# Altium integrated library Modules.IntLib: 28 symbols
Pins are listed as number, name and electrical type; pins without a type are passive.

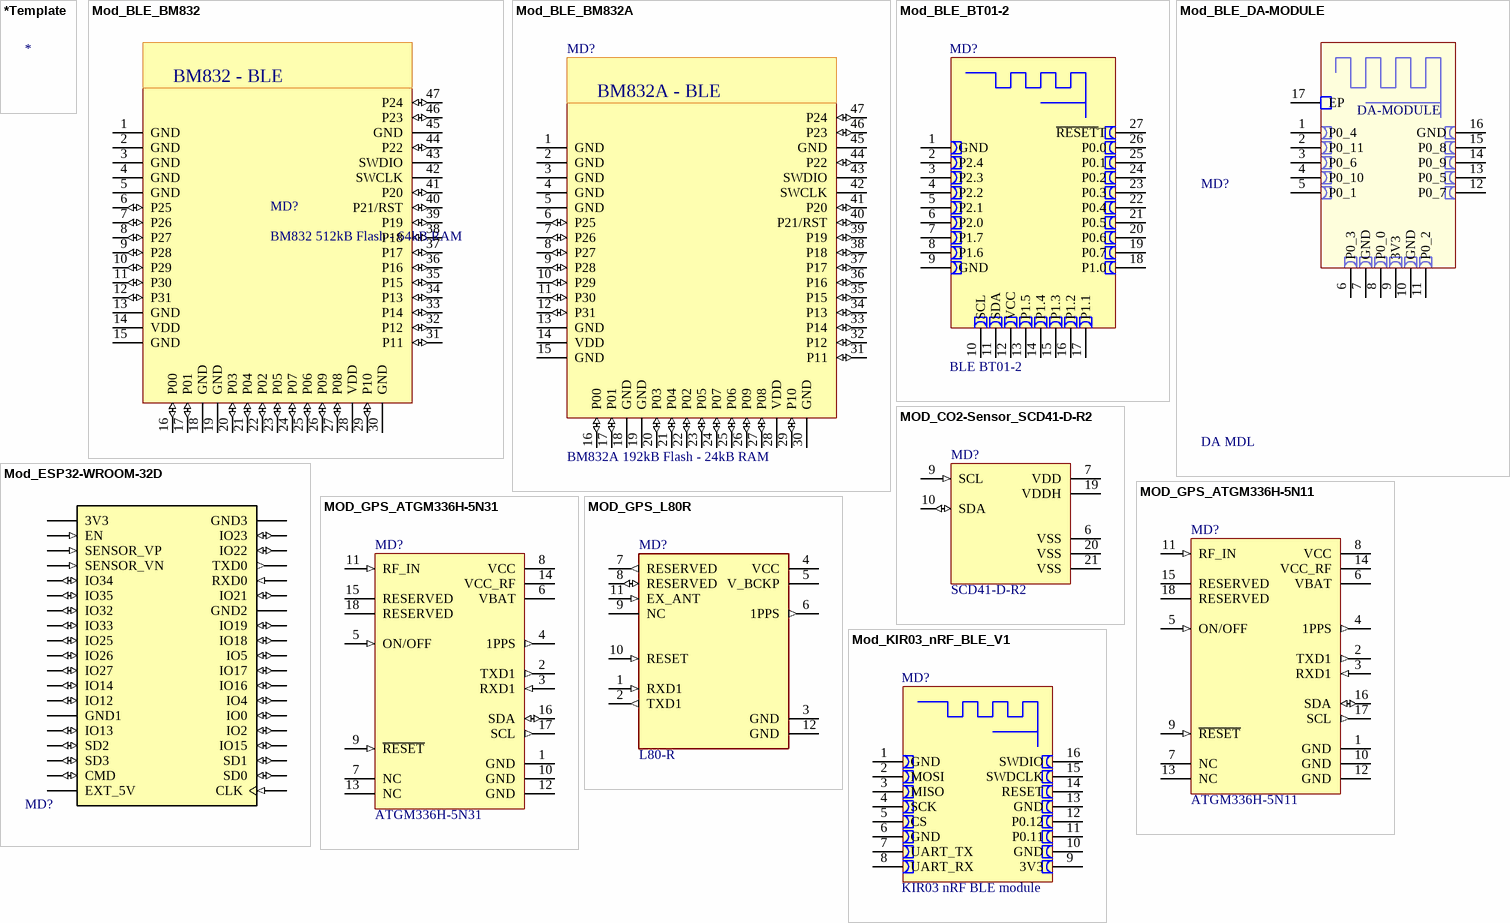
[diagram p0: symbols *Template to Mod_KIR03_nRF_BLE_V1]

## *Template
designator *
Reel Stock: N/A; Last modified by: J.Jaramillo; Last modified date: 20240310

## Mod_BLE_BM832
designator MD?, comment BM832 512kB Flash - 64kB RAM
RF TXRX MODULE BT PCB TRC SMD; Manufacturer: Fanstel Corp.; Manufacturer Part Number: BM832; Supplier 1: Digi-Key; Supplier Part Number 1: 1914-BM832CT-ND; Reel Stock: N/A; Last modified by: J.Jaramillo; Last modified date: 20240310; ComponentLink1Description: Digi-Key; ComponentLink1URL: https://www.digikey.com/en/products/detail/fanstel-corp/BM832/10296788
footprint MOD_BLE_BM832A (/20210909/C-E.Rincon)
pins: 1 GND (power), 2 GND (power), 3 GND (power), 4 GND (power), 5 GND (power), 6 P25 (io), 7 P26 (io), 8 P27 (io), 9 P28 (io), 10 P29 (io), 11 P30 (io), 12 P31 (io), 13 GND (power), 14 VDD (power), 15 GND (power), 16 P00 (io), 17 P01 (io), 18 GND (power), 19 GND (power), 20 P03 (io), 21 P04 (io), 22 P02 (io), 23 P05 (io), 24 P07 (io), 25 P06 (io), 26 P09 (io), 27 P08 (io), 28 VDD (power), 29 P10 (io), 30 GND (power), 31 P11 (io), 32 P12 (io), 33 P14 (io), 34 P13 (io), 35 P15 (io), 36 P16 (io), 37 P17 (io), 38 P18 (io), 39 P19 (io), 40 P21/RST (io), 41 P20 (io), 42 SWCLK (power), 43 SWDIO (power), 44 P22 (io), 45 GND (power), 46 P23 (io), 47 P24 (io)
text: BM832 - BLE

## Mod_BLE_BM832A
designator MD?, comment BM832A 192kB Flash - 24kB RAM
BLE v5.0 Transceiver Module, core nRF52810; Manufacturer: Fanstel Corp.; Manufacturer Part Number: BM832A; Supplier 1: Digi-Key; Supplier Part Number 1: 1914-BM832ACT-ND; Reel Stock: N/A; Last modified by: J.Jaramillo; Last modified date: 20240310; ComponentLink1Description: Digi-Key; ComponentLink1URL: https://www.digikey.com/en/products/detail/fanstel-corp/BM832A/10296795
footprint MOD_BLE_BM832A (/20210909/C-E.Rincon)
pins: 1 GND (power), 2 GND (power), 3 GND (power), 4 GND (power), 5 GND (power), 6 P25 (io), 7 P26 (io), 8 P27 (io), 9 P28 (io), 10 P29 (io), 11 P30 (io), 12 P31 (io), 13 GND (power), 14 VDD (power), 15 GND (power), 16 P00 (io), 17 P01 (io), 18 GND (power), 19 GND (power), 20 P03 (io), 21 P04 (io), 22 P02 (io), 23 P05 (io), 24 P07 (io), 25 P06 (io), 26 P09 (io), 27 P08 (io), 28 VDD (power), 29 P10 (io), 30 GND (power), 31 P11 (io), 32 P12 (io), 33 P14 (io), 34 P13 (io), 35 P15 (io), 36 P16 (io), 37 P17 (io), 38 P18 (io), 39 P19 (io), 40 P21/RST (io), 41 P20 (io), 42 SWCLK (power), 43 SWDIO (power), 44 P22 (io), 45 GND (power), 46 P23 (io), 47 P24 (io)
text: BM832A - BLE

## Mod_BLE_BT01-2
designator MD?, comment BLE BT01-2
BLUETOOTH 4.0 LOW ENERGY MODULE; Manufacturer: Digimore Electronics; Manufacturer Part Number: BT01-2; Supplier 1: Digimore Electronis; Supplier Part Number 1: BT01-2; Reel Stock: N/A; Last modified by: J.Jaramillo; Last modified date: 20240310; ComponentLink1Description: Digimore Electronics; ComponentLink1URL: https://www.digimore.com.tw/BT01-2.html
footprint MOD_BLE_BT01-2 (/20210217/J-E.Pachon)
pins: 1 GND, 2 P2.4, 3 P2.3, 4 P2.2, 5 P2.1, 6 P2.0, 7 P1.7, 8 P1.6, 9 GND, 10 SCL, 11 SDA, 12 VCC, 13 P1.5, 14 P1.4, 15 P1.3, 16 P1.2, 17 P1.1, 18 P1.0, 19 P0.7, 20 P0.6, 21 P0.5, 22 P0.4, 23 P0.3, 24 P0.2, 25 P0.1, 26 P0.0, 27 ~{RESET}T

## Mod_BLE_DA-MODULE
designator MD?, comment DA MDL  (no BOM)
MODULE BLE DA14531; Reel Stock: N/A; Last modified by: J.Jaramillo; Last modified date: 20240310
footprint MOD_BLE_DA (/20230718/L-A.Rodriguez)
pins: 1 P0_4, 2 P0_11, 3 P0_6, 4 P0_10, 5 P0_1, 6 P0_3, 7 GND, 8 P0_0, 9 3V3, 10 GND, 11 P0_2, 12 P0_7, 13 P0_5, 14 P0_9, 15 P0_8, 16 GND, 17 EP
text: DA-MODULE

## MOD_CO2-Sensor_SCD41-D-R2
designator MD?, comment SCD41-D-R2
CO2 SENSOR 40 PPM I2C SMD; Manufacturer: Sensirion AG; Manufacturer Part Number: SCD41-D-R2; Supplier 1: Digi-Key; Supplier Part Number 1: 1649-SCD41-D-R2CT-ND; Reel Stock: N/A; Last modified by: J.Jaramillo; Last modified date: 20240310; ComponentLink1Description: Digi-Key; ComponentLink1URL: https://www.digikey.com/en/products/detail/sensirion-ag/SCD41-D-R2/13684005?s=N4IgTCBcDaIMoGEAiAWAjAWiRgShAugL5A
footprint MOD_CO2-Sensor_SCD41-D-R2 (/20220124/J/E.Pachon)
pins: 6 VSS (power), 7 VDD (power), 9 SCL (in), 10 SDA (io), 19 VDDH (power), 20 VSS (power), 21 VSS (power)

## Mod_ESP32-WROOM-32D
designator MD?, comment General Development Kit, ESP32-WROOM-32D on the board  (value not drawn)
Manufacturer: Espressif; Manufacturer Part Number: ESP32-WROOM-32D; Supplier 1: Digi-Key; Supplier Part Number 1: 4166-PARTESP32WROOM32DDEVKITC-ND; Reel Stock: N/A; Last modified by: J.Jaramillo; Last modified date: 20240310
footprint MOD_ESP32-WROOM-32D (/20231103/J.Jaramillo)
pins: J2-1 3V3 (power), J2-2 EN (in), J2-3 SENSOR_VP (in), J2-4 SENSOR_VN (in), J2-5 IO34 (io), J2-6 IO35 (io), J2-7 IO32 (io), J2-8 IO33 (io), J2-9 IO25 (io), J2-10 IO26 (io), J2-11 IO27 (io), J2-12 IO14 (io), J2-13 IO12 (io), J2-14 GND1 (power), J2-15 IO13 (io), J2-16 SD2 (io), J2-17 SD3 (io), J2-18 CMD (io), J2-19 EXT_5V (power), J3-1 GND3 (power), J3-2 IO23 (io), J3-3 IO22 (io), J3-4 TXD0 (out), J3-5 RXD0 (in), J3-6 IO21 (io), J3-7 GND2 (power), J3-8 IO19 (io), J3-9 IO18 (io), J3-10 IO5 (io), J3-11 IO17 (io), J3-12 IO16 (io), J3-13 IO4 (io), J3-14 IO0 (io), J3-15 IO2 (io), J3-16 IO15 (io), J3-17 SD1 (io), J3-18 SD0 (io), J3-19 CLK (in)

## MOD_GPS_ATGM336H-5N11
designator MD?, comment ATGM336H-5N11
GNSS Series GPS 9.7x10.1mm Communication Modules/GNSS Modules RoHS; Manufacturer: ZHONGKEWEI; Manufacturer Part Number: ATGM336H-5N11; Supplier 1: LCSC; Supplier Part Number 1: C90769; Reel Stock: N/A; Last modified by: J.Jaramillo; Last modified date: 20240310; ComponentLink1Description: LCSC; ComponentLink1URL: https://lcsc.com/product-detail/Communication-Modules-GNSS-Modules_ZHONGKEWEI-ATGM336H-5N11_C90769.html
footprint MOD_GPS_ATGM336H-5N (/20210421/C-D Viveros)
pins: 1 GND (power), 2 TXD1 (out), 3 RXD1 (in), 4 1PPS (out), 5 ON/OFF (in), 6 VBAT (power), 7 NC (power), 8 VCC (power), 9 ~{RESET} (in), 10 GND (power), 11 RF_IN (in), 12 GND (power), 13 NC (power), 14 VCC_RF (power), 15 RESERVED, 16 SDA (io), 17 SCL (out), 18 RESERVED

## MOD_GPS_ATGM336H-5N31
designator MD?, comment ATGM336H-5N31
GNSS Series GPS+BDS 9.7x10.1mm Communication Modules/GNSS Modules RoHS; Manufacturer: ZHONGKEWEI; Manufacturer Part Number: ATGM336H-5N31; Supplier 1: LCSC; Supplier Part Number 1: C90770; Reel Stock: N/A; Last modified by: J.Jaramillo; Last modified date: 20240310; ComponentLink1Description: LCSC; ComponentLink1URL: https://lcsc.com/product-detail/Communication-Modules-GNSS-Modules_ZHONGKEWEI-ATGM336H-5N31_C90770.html
footprint MOD_GPS_ATGM336H-5N (/20210421/C-D Viveros)
pins: 1 GND (power), 2 TXD1 (out), 3 RXD1 (in), 4 1PPS (out), 5 ON/OFF (in), 6 VBAT (power), 7 NC (power), 8 VCC (power), 9 ~{RESET} (in), 10 GND (power), 11 RF_IN (in), 12 GND (power), 13 NC (power), 14 VCC_RF (power), 15 RESERVED, 16 SDA (io), 17 SCL (out), 18 RESERVED

## MOD_GPS_L80R
designator MD?, comment L80-R
GNSS Series GPS SMD Communication Modules/GNSS Modules RoHS; Manufacturer: Quectel; Manufacturer Part Number: L80-R; Supplier 1: LCSC; Supplier Part Number 1: C188357; Reel Stock: N/A; Last modified by: J.Jaramillo; Last modified date: 20240310; ComponentLink1Description: LCSC; ComponentLink1URL: https://lcsc.com/product-detail/Communication-Modules-GNSS-Modules_Quectel-L80-R_C188357.html
footprint MOD_GPS_L80RE (/20210416/V-A.Patino)
pins: 1 RXD1 (in), 2 TXD1 (out), 3 GND (power), 4 VCC (power), 5 V_BCKP (power), 6 1PPS (out), 7 RESERVED (out), 8 RESERVED (io), 9 NC, 10 RESET (in), 11 EX_ANT (in), 12 GND (power)

## Mod_KIR03_nRF_BLE_V1
designator MD?, comment KIR03 nRF BLE module  (no BOM)
Manufacturer: Titoma; Reel Stock: N/A; Last modified by: J.Jaramillo; Last modified date: 20240310
footprint Mod_KIR03_nRF_BLE_V1 (/20200207/ C-A.Serna.A)
pins: 1 GND, 2 MOSI, 3 MISO, 4 SCK, 5 CS, 6 GND, 7 UART_TX, 8 UART_RX, 9 3V3, 10 GND, 11 P0.11, 12 P0.12, 13 GND, 14 RESET, 15 SWDCLK, 16 SWDIO

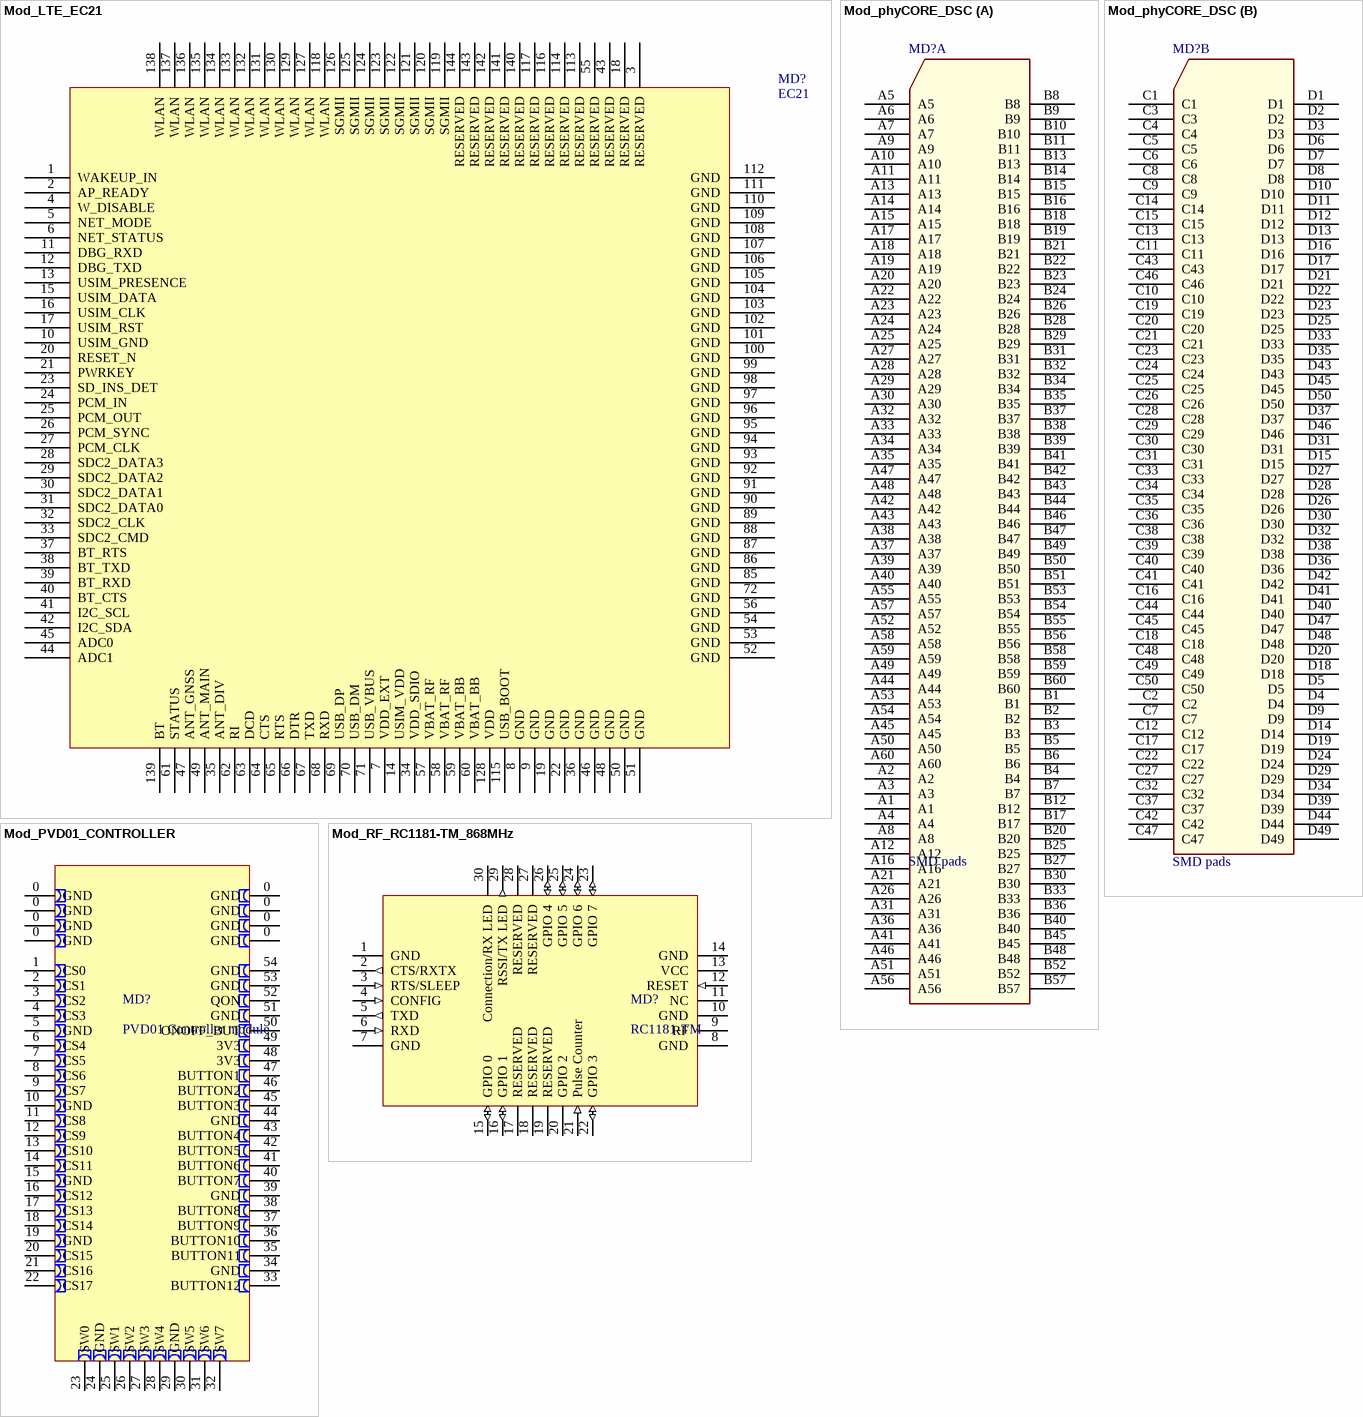
[diagram p1: symbols Mod_LTE_EC21 to Mod_RF_RC1181-TM_868MHz]

## Mod_LTE_EC21
designator MD?, comment EC21
Quectel EC21- series of LTE; Manufacturer Part Number: LTE-EC21; Manufacturer: QUECTEL; Supplier 1: Poshton; Supplier Part Number 1: LTE-EC21; Reel Stock: N/A; Last modified by: J.Jaramillo; Last modified date: 20240310; ComponentLink1Description: Datasheet; ComponentLink1URL: https://micromodern.ir/wp-content/uploads/2017/10/Quectel-EC21-Hardware-Design-datasheet.pdf
footprint MOD_LTE_EC21 (/20190402/ M-X.Arias)
pins: 1 WAKEUP_IN, 2 AP_READY, 3 RESERVED, 4 W_DISABLE, 5 NET_MODE, 6 NET_STATUS, 7 VDD_EXT, 8 GND, 9 GND, 10 USIM_GND, 11 DBG_RXD, 12 DBG_TXD, 13 USIM_PRESENCE, 14 USIM_VDD, 15 USIM_DATA, 16 USIM_CLK, 17 USIM_RST, 18 RESERVED, 19 GND, 20 RESET_N, 21 PWRKEY, 22 GND, 23 SD_INS_DET, 24 PCM_IN, 25 PCM_OUT, 26 PCM_SYNC, 27 PCM_CLK, 28 SDC2_DATA3, 29 SDC2_DATA2, 30 SDC2_DATA1, 31 SDC2_DATA0, 32 SDC2_CLK, 33 SDC2_CMD, 34 VDD_SDIO, 35 ANT_DIV, 36 GND, 37 BT_RTS, 38 BT_TXD, 39 BT_RXD, 40 BT_CTS, 41 I2C_SCL, 42 I2C_SDA, 43 RESERVED, 44 ADC1, 45 ADC0, 46 GND, 47 ANT_GNSS, 48 GND, 49 ANT_MAIN, 50 GND, 51 GND, 52 GND, 53 GND, 54 GND, 55 RESERVED, 56 GND, 57 VBAT_RF, 58 VBAT_RF, 59 VBAT_BB, 60 VBAT_BB, 61 STATUS, 62 RI, 63 DCD, 64 CTS, 65 RTS, 66 DTR, 67 TXD, 68 RXD, 69 USB_DP, 70 USB_DM, 71 USB_VBUS, 72 GND, 85 GND, 86 GND, 87 GND, 88 GND, 89 GND, 90 GND, 91 GND, 92 GND, 93 GND, 94 GND, 95 GND, 96 GND, 97 GND, 98 GND, 99 GND, 100 GND, 101 GND, 102 GND, 103 GND, 104 GND, 105 GND, 106 GND, 107 GND, 108 GND, 109 GND, 110 GND, 111 GND, 112 GND, 113 RESERVED, 114 RESERVED, 115 USB_BOOT, 116 RESERVED, 117 RESERVED, 118 WLAN, 119 SGMII, 120 SGMII, 121 SGMII, 122 SGMII, 123 SGMII, 124 SGMII, 125 SGMII, 126 SGMII, 127 WLAN, 128 VDD, 129 WLAN, 130 WLAN, 131 WLAN, 132 WLAN, 133 WLAN, 134 WLAN, 135 WLAN, 136 WLAN, 137 WLAN, 138 WLAN, 139 BT, 140 RESERVED, 141 RESERVED, 142 RESERVED, 143 RESERVED, 144 RESERVED

## Mod_phyCORE_DSC
designator MD?, comment SMD pads
phyCORE-AM335x 220 SMD pads; Manufacturer Part Number: PHYCORE 1358-4; Manufacturer: phyTEC; Supplier 1: phyTEC; Supplier Part Number 1: PHYCORE 1358-4; Reel Stock: N/A; Last modified by: J.Jaramillo; Last modified date: 20240310
footprint MOD_phyCORE_DSC (phyCORE DSC 220 SMD Pads/N-A.Potosi/20200309)
part A pins: A1, A2, A3, A4, A5, A6, A7, A8, A9, A10, A11, A12, A13, A14, A15, A16, A17, A18, A19, A20, A21, A22, A23, A24, A25, A26, A27, A28, A29, A30, A31, A32, A33, A34, A35, A36, A37, A38, A39, A40, A41, A42, A43, A44, A45, A46, A47, A48, A49, A50, A51, A52, A53, A54, A55, A56, A57, A58, A59, A60, B1, B2, B3, B4, B5, B6, B7, B8, B9, B10, B11, B12, B13, B14, B15, B16, B17, B18, B19, B20, B21, B22, B23, B24, B25, B26, B27, B28, B29, B30, B31, B32, B33, B34, B35, B36, B37, B38, B39, B40, B41, B42, B43, B44, B45, B46, B47, B48, B49, B50, B51, B52, B53, B54, B55, B56, B57, B58, B59, B60
part B pins: C1, C2, C3, C4, C5, C6, C7, C8, C9, C10, C11, C12, C13, C14, C15, C16, C17, C18, C19, C20, C21, C22, C23, C24, C25, C26, C27, C28, C29, C30, C31, C32, C33, C34, C35, C36, C37, C38, C39, C40, C41, C42, C43, C44, C45, C46, C47, C48, C49, C50, D1, D2, D3, D4, D5, D6, D7, D8, D9, D10, D11, D12, D13, D14, D15, D16, D17, D18, D19, D20, D21, D22, D23, D24, D25, D26, D27, D28, D29, D30, D31, D32, D33, D34, D35, D36, D37, D38, D39, D40, D41, D42, D43, D44, D45, D46, D47, D48, D49, D50

## Mod_PVD01_CONTROLLER
designator MD?, comment PVD01 Controller module
Reel Stock: N/A; Last modified by: J.Jaramillo; Last modified date: 20240310
footprint Mod_PVD01_CONTROLLER (/20230808/J-A.Sepulveda)
pins: 0 GND, 0 GND, 0 GND, 0 GND, 0 GND, 0 GND, 0 GND, 0 GND, 1 CS0, 2 CS1, 3 CS2, 4 CS3, 5 GND, 6 CS4, 7 CS5, 8 CS6, 9 CS7, 10 GND, 11 CS8, 12 CS9, 13 CS10, 14 CS11, 15 GND, 16 CS12, 17 CS13, 18 CS14, 19 GND, 20 CS15, 21 CS16, 22 CS17, 23 SW0, 24 GND, 25 SW1, 26 SW2, 27 SW3, 28 SW4, 29 GND, 30 SW5, 31 SW6, 32 SW7, 33 BUTTON12, 34 GND, 35 BUTTON11, 36 BUTTON10, 37 BUTTON9, 38 BUTTON8, 39 GND, 40 BUTTON7, 41 BUTTON6, 42 BUTTON5, 43 BUTTON4, 44 GND, 45 BUTTON3, 46 BUTTON2, 47 BUTTON1, 48 3V3, 49 3V3, 50 ONOFF_BUT, 51 GND, 52 QON, 53 GND, 54 GND

## Mod_RF_RC1181-TM_868MHz
designator MD?, comment RC1181-TM
RF TXRX MOD ISM < 1GHZ CAST SMD; Manufacturer: Radiocrafts AS; Manufacturer Part Number: RC1181-TM; Supplier 1: Digi-Key; Supplier Part Number 1: 1783-1039-1-ND; Reel Stock: N/A; Last modified by: J.Jaramillo; Last modified date: 20240310; ComponentLink1Description: Digi-Key; ComponentLink1URL: https://www.digikey.com/en/products/detail/radiocrafts-as/RC1181-TM/7100608
footprint MOD_RF_RC1181-TM_868MHz (/20230728/J-A.Sepulveda)
pins: 1 GND (power), 2 CTS/RXTX (out), 3 RTS/SLEEP (in), 4 CONFIG (in), 5 TXD (out), 6 RXD (in), 7 GND (power), 8 GND (power), 9 RF, 10 GND (power), 11 NC, 12 RESET (in), 13 VCC (power), 14 GND (power), 15 GPIO 0 (io), 16 GPIO 1 (io), 17 RESERVED, 18 RESERVED, 19 RESERVED, 20 GPIO 2, 21 Pulse Counter (in), 22 GPIO 3 (io), 23 GPIO 7 (io), 24 GPIO 6 (io), 25 GPIO 5 (io), 26 GPIO 4 (io), 27 RESERVED, 28 RESERVED, 29 RSSI/TX LED (out), 30 Connection/RX LED

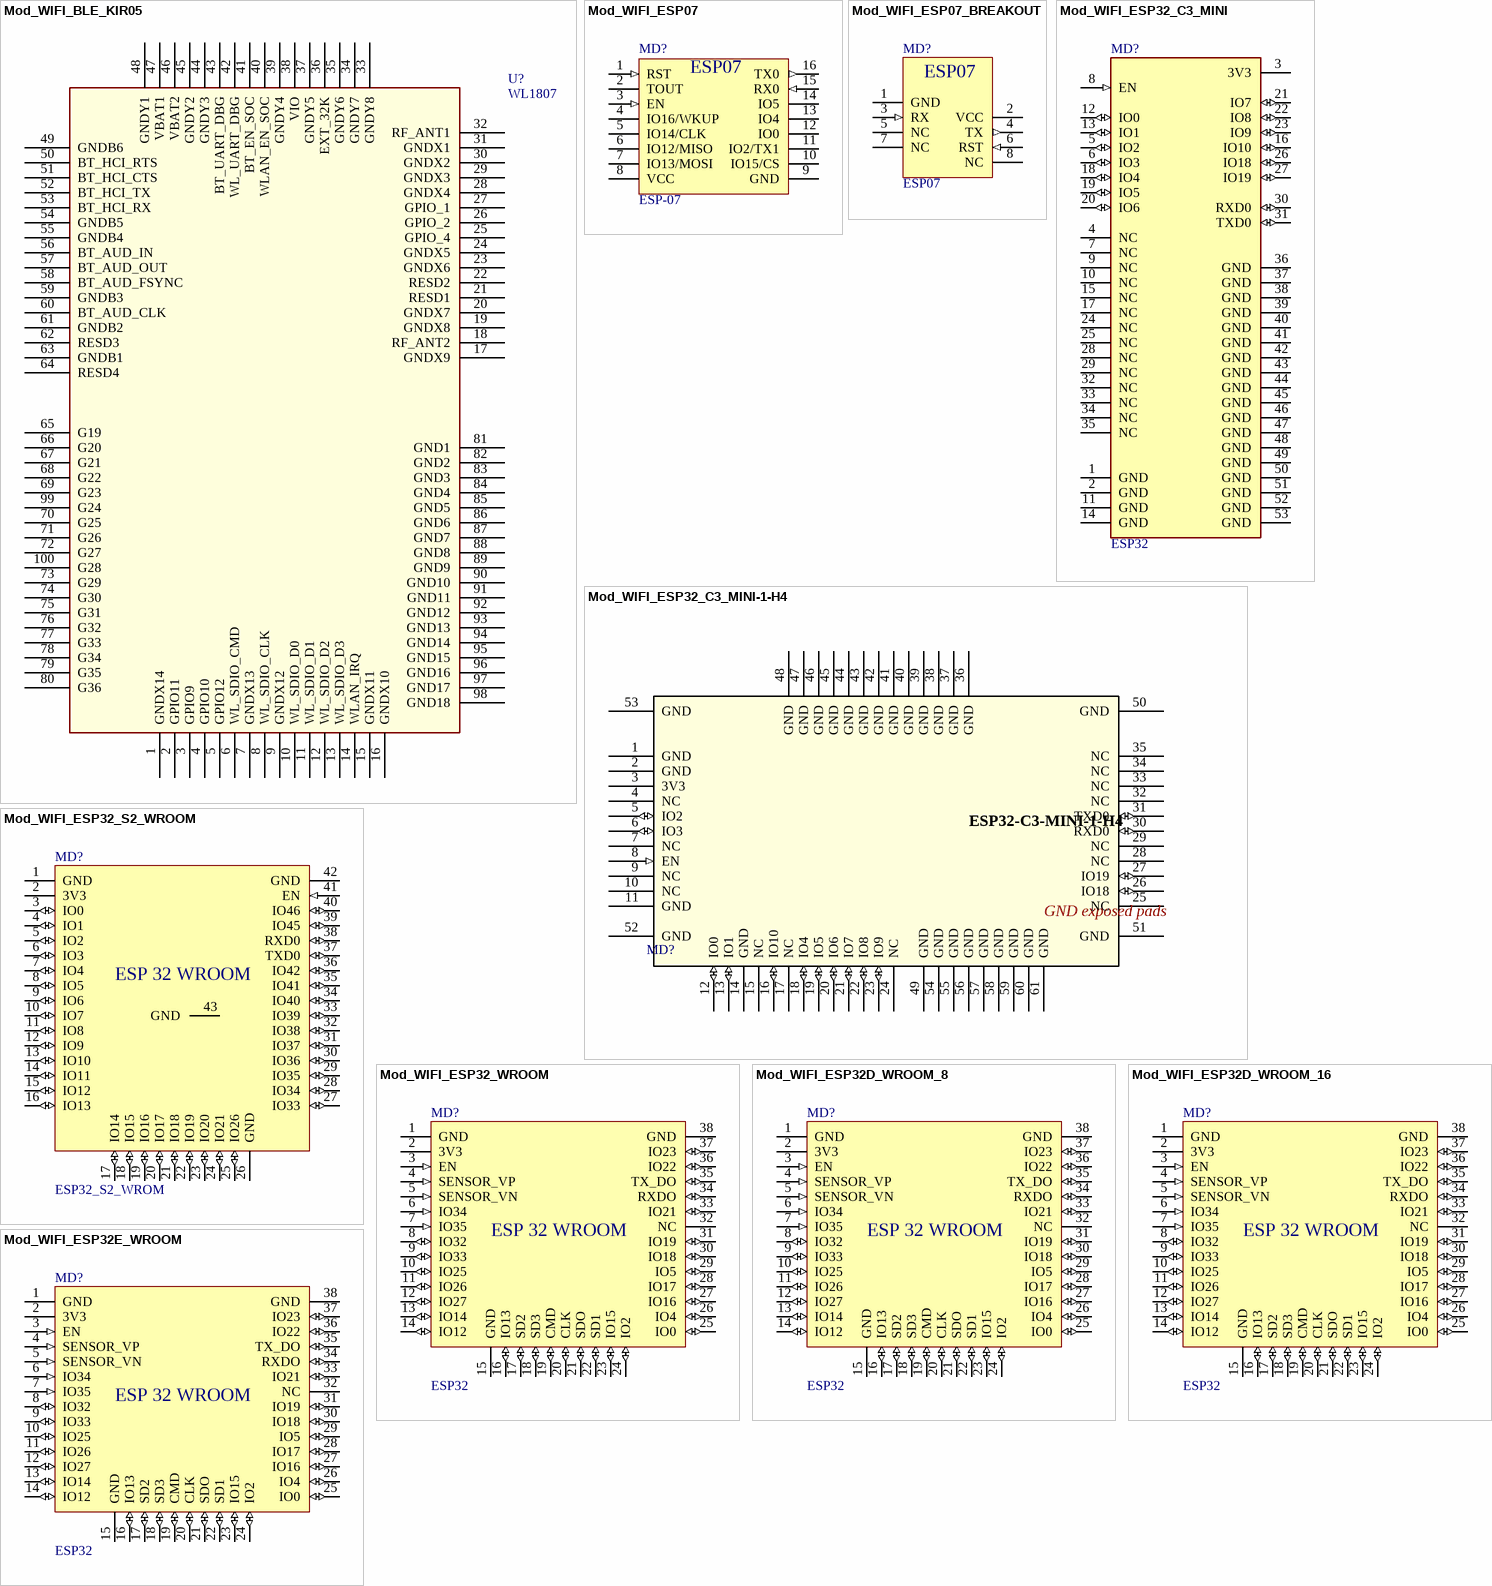
[diagram p2: symbols Mod_WIFI_BLE_KIR05 to Mod_WIFI_ESP32E_WROOM]

## Mod_WIFI_BLE_KIR05
designator U?, comment WL1807
RX TXRX MOD WIFI SURFACE MOUNT; Manufacturer: Texas Instruments; Manufacturer Part Number: WL1807MODGIMOCT; Supplier 1: Digi-Key; Supplier Part Number 1: 296-43665-1-ND; Reel Stock: N/A; Last modified by: J.Jaramillo; Last modified date: 20240310; ComponentLink1Description: Digi-Key; ComponentLink1URL: https://www.digikey.com/products/en?keywords=296-43665-1-ND
footprint MOD_WIFI_BLE_MOC0100A (/20200813/M-C.Calderon)
pins: 1 GNDX14, 2 GPIO11, 3 GPIO9, 4 GPIO10, 5 GPIO12, 6 WL_SDIO_CMD, 7 GNDX13, 8 WL_SDIO_CLK, 9 GNDX12, 10 WL_SDIO_D0, 11 WL_SDIO_D1, 12 WL_SDIO_D2, 13 WL_SDIO_D3, 14 WLAN_IRQ, 15 GNDX11, 16 GNDX10, 17 GNDX9, 18 RF_ANT2, 19 GNDX8, 20 GNDX7, 21 RESD1, 22 RESD2, 23 GNDX6, 24 GNDX5, 25 GPIO_4, 26 GPIO_2, 27 GPIO_1, 28 GNDX4, 29 GNDX3, 30 GNDX2, 31 GNDX1, 32 RF_ANT1, 33 GNDY8, 34 GNDY7, 35 GNDY6, 36 EXT_32K, 37 GNDY5, 38 VIO, 39 GNDY4, 40 WLAN_EN_SOC, 41 BT_EN_SOC, 42 WL_UART_DBG, 43 BT_UART_DBG, 44 GNDY3, 45 GNDY2, 46 VBAT2, 47 VBAT1, 48 GNDY1, 49 GNDB6, 50 BT_HCI_RTS, 51 BT_HCI_CTS, 52 BT_HCI_TX, 53 BT_HCI_RX, 54 GNDB5, 55 GNDB4, 56 BT_AUD_IN, 57 BT_AUD_OUT, 58 BT_AUD_FSYNC, 59 GNDB3, 60 BT_AUD_CLK, 61 GNDB2, 62 RESD3, 63 GNDB1, 64 RESD4, 65 G19, 66 G20, 67 G21, 68 G22, 69 G23, 70 G25, 71 G26, 72 G27, 73 G29, 74 G30, 75 G31, 76 G32, 77 G33, 78 G34, 79 G35, 80 G36, 81 GND1, 82 GND2, 83 GND3, 84 GND4, 85 GND5, 86 GND6, 87 GND7, 88 GND8, 89 GND9, 90 GND10, 91 GND11, 92 GND12, 93 GND13, 94 GND14, 95 GND15, 96 GND16, 97 GND17, 98 GND18, 99 G24, 100 G28

## Mod_WIFI_ESP07
designator MD?, comment ESP-07
ESP-07 WiFi Module; Manufacturer: AI-Thinker; Manufacturer Part Number: ESP-07; Supplier 1: AI-Thinker; Supplier Part Number 1: ESP-07; Reel Stock: N/A; Last modified by: J.Jaramillo; Last modified date: 20240310; ComponentLink2Description: Datasheet; ComponentLink2URL: http://www.ai-thinker.com/pro_view-20.html
footprint MOD_WIFI_ESP_07 (ESP_07 / 20190221 / H-D.Garcia)
pins: 1 RST (in), 2 TOUT, 3 EN (in), 4 IO16/WKUP, 5 IO14/CLK, 6 IO12/MISO, 7 IO13/MOSI, 8 VCC (power), 9 GND (power), 10 IO15/CS, 11 IO2/TX1, 12 IO0, 13 IO4, 14 IO5, 15 RX0 (in), 16 TX0 (out)
text: ESP07

## Mod_WIFI_ESP07_BREAKOUT
designator MD?, comment ESP07  (no BOM)
TITOMA ESP07 BREAKOUT; Reel Stock: N/A; Last modified by: J.Jaramillo; Last modified date: 20240310
footprint MOD_WIFI_ESP07_BREAKOUT (ESP07/ 20200221 / N-A. Potosi)
pins: 1 GND, 2 VCC, 3 RX (in), 4 TX (out), 5 NC, 6 RST (in), 7 NC, 8 NC

## Mod_WIFI_ESP32_C3_MINI
designator MD?, comment ESP32
SMD MODULE, ESP32-C3FN4, IPEX AN; Manufacturer: Espressif Systems; Manufacturer Part Number: ESP32-C3-MINI-1U-N4; Supplier 1: Digi-Key; Supplier Part Number 1: 1965-ESP32-C3-MINI-1U-N4CT-ND; Reel Stock: N/A; Last modified by: J.Jaramillo; Last modified date: 20240310; ComponentLink1Description: Digi-Key; ComponentLink1URL: https://www.digikey.com/en/products/detail/espressif-systems/ESP32-C3-MINI-1U-N4/15222550?s=N4IgTCBcDaIKIGUAKBmMBaAwi9BZAkgHL7oCMAquoQCwgC6AvkA
footprint MOD_WIFI_ESP32_C3_MINI (20220613 / E.Naranjo)
pins: 1 GND (power), 2 GND (power), 3 3V3 (power), 4 NC, 5 IO2 (io), 6 IO3 (io), 7 NC, 8 EN (in), 9 NC, 10 NC, 11 GND (power), 12 IO0 (io), 13 IO1 (io), 14 GND (power), 15 NC, 16 IO10 (io), 17 NC, 18 IO4 (io), 19 IO5 (io), 20 IO6 (io), 21 IO7 (io), 22 IO8 (io), 23 IO9 (io), 24 NC, 25 NC, 26 IO18 (io), 27 IO19 (io), 28 NC, 29 NC, 30 RXD0 (io), 31 TXD0 (io), 32 NC, 33 NC, 34 NC, 35 NC, 36 GND (power), 37 GND (power), 38 GND (power), 39 GND (power), 40 GND (power), 41 GND (power), 42 GND (power), 43 GND (power), 44 GND (power), 45 GND (power), 46 GND (power), 47 GND (power), 48 GND (power), 49 GND (power), 50 GND (power), 51 GND (power), 52 GND (power), 53 GND (power)

## Mod_WIFI_ESP32_C3_MINI-1-H4
designator MD?
IC PSRAM 4MB FLASH SMD; Manufacturer: Espressif Systems; Manufacturer Part Number: ESP32-C3-MINI-1-H4; Supplier 1: Digi-Key; Supplier Part Number 1: 1965-ESP32-C3-MINI-1-H4CT-ND; Reel Stock: N/A; Last modified by: J.Jaramillo; Last modified date: 20240310; ComponentLink1Description: Digi-Key; ComponentLink1URL: https://www.digikey.com/en/products/detail/espressif-systems/ESP32-C3-MINI-1-H4/14548892; ComponentLink2Description: Datasheet; ComponentLink2URL: https://www.espressif.com/sites/default/files/documentation/esp32-c3-mini-1_datasheet_en.pdf
footprint MOD_WIFI_ESP32_C3_MINI -1-H4 (20230614 / J.Jaramillo)
pins: 1 GND (power), 2 GND (power), 3 3V3 (power), 4 NC, 5 IO2 (io), 6 IO3 (io), 7 NC, 8 EN (in), 9 NC, 10 NC, 11 GND (power), 12 IO0 (io), 13 IO1 (io), 14 GND (power), 15 NC, 16 IO10 (io), 17 NC, 18 IO4 (io), 19 IO5 (io), 20 IO6 (io), 21 IO7 (io), 22 IO8 (io), 23 IO9 (io), 24 NC, 25 NC, 26 IO18 (io), 27 IO19 (io), 28 NC, 29 NC, 30 RXD0 (io), 31 TXD0 (io), 32 NC, 33 NC, 34 NC, 35 NC, 36 GND (power), 37 GND (power), 38 GND (power), 39 GND (power), 40 GND (power), 41 GND (power), 42 GND (power), 43 GND (power), 44 GND (power), 45 GND (power), 46 GND (power), 47 GND (power), 48 GND (power), 49 GND (power), 50 GND (power), 51 GND (power), 52 GND (power), 53 GND (power), 54 GND (power), 55 GND (power), 56 GND (power), 57 GND (power), 58 GND (power), 59 GND (power), 60 GND (power), 61 GND (power)
text: GND exposed pads

## Mod_WIFI_ESP32_S2_WROOM
designator MD?, comment ESP32_S2_WROM
RX TXRX MOD WIFI SURFACE MOUNT; Manufacturer: Espressif Systems; Manufacturer Part Number: ESP32-S2-WROOM; Supplier 1: Digi-Key; Supplier Part Number 1: 1965-ESP32-S2-WROOMCT-ND; Reel Stock: N/A; Last modified by: J.Jaramillo; Last modified date: 20240310; ComponentLink1Description: Digi-Key; ComponentLink1URL: https://www.digikey.com/en/products/detail/espressif-systems/ESP32-S2-WROOM/11613143?s=N4IgTCBcDaIIwE4BsBWAtAUQMoAUDMYaWhA6gEoDyFAsgMIAqaAcgCIgC6AvkA
footprint MOD_WIFI_ESP32_S2_WROM (/20210325/V-A.Patino)
pins: 1 GND (power), 2 3V3 (power), 3 IO0 (io), 4 IO1 (io), 5 IO2 (io), 6 IO3 (io), 7 IO4 (io), 8 IO5 (io), 9 IO6 (io), 10 IO7 (io), 11 IO8 (io), 12 IO9 (io), 13 IO10 (io), 14 IO11 (io), 15 IO12 (io), 16 IO13 (io), 17 IO14 (io), 18 IO15 (io), 19 IO16 (io), 20 IO17 (io), 21 IO18 (io), 22 IO19 (io), 23 IO20 (io), 24 IO21 (io), 25 IO26 (io), 26 GND (power), 27 IO33 (io), 28 IO34 (io), 29 IO35 (io), 30 IO36 (io), 31 IO37 (io), 32 IO38 (io), 33 IO39 (io), 34 IO40 (io), 35 IO41 (io), 36 IO42 (io), 37 TXD0 (io), 38 RXD0 (io), 39 IO45 (io), 40 IO46 (io), 41 EN (in), 42 GND (power), 43 GND (power)
text: ESP 32 WROOM

## Mod_WIFI_ESP32_WROOM
designator MD?, comment ESP32
SMD MODULE, ESP32-D0WDQ6, 32MBIT; Manufacturer: Espressif Systems; Manufacturer Part Number: ESP32-WROOM-32; Supplier 1: Digi-Key; Supplier Part Number 1: 1904-1010-1-ND; Reel Stock: N/A; Last modified by: J.Jaramillo; Last modified date: 20240310; ComponentLink1Description: Digi-Key; ComponentLink1URL: https://www.digikey.com/product-detail/en/espressif-systems/ESP32-WROOM-32/1904-1010-1-ND/8544305
footprint MOD_WIFI_ESP32_WROOM (ESP32_WROOM / 20190221 / H-D.Garcia)
pins: 1 GND (power), 2 3V3 (power), 3 EN (in), 4 SENSOR_VP (in), 5 SENSOR_VN (in), 6 IO34 (in), 7 IO35 (in), 8 IO32 (io), 9 IO33 (io), 10 IO25 (io), 11 IO26 (io), 12 IO27 (io), 13 IO14 (io), 14 IO12 (io), 15 GND (power), 16 IO13 (io), 17 SD2 (io), 18 SD3 (io), 19 CMD (io), 20 CLK (io), 21 SDO (io), 22 SD1 (io), 23 IO15 (io), 24 IO2 (io), 25 IO0 (io), 26 IO4 (io), 27 IO16 (io), 28 IO17 (io), 29 IO5 (io), 30 IO18 (io), 31 IO19 (io), 32 NC, 33 IO21 (io), 34 RXDO (io), 35 TX_DO (io), 36 IO22 (io), 37 IO23 (io), 38 GND (power)
text: ESP 32 WROOM

## Mod_WIFI_ESP32D_WROOM_8
designator MD?, comment ESP32
RX TXRX MOD WIFI TRACE ANT SMD; Manufacturer: Espressif Systems; Manufacturer Part Number: ESP32-WROOM-32D-N8; Supplier 1: Digi-Key; Supplier Part Number 1: 1965-ESP32-WROOM-32D-N8CT-ND; Reel Stock: N/A; Last modified by: J.Jaramillo; Last modified date: 20240310; ComponentLink1Description: Digi-Key; ComponentLink1URL: https://www.digikey.com/en/products/detail/espressif-systems/ESP32-WROOM-32D-N8/9381717
footprint MOD_WIFI_ESP32_WROOM (ESP32_WROOM / 20190221 / H-D.Garcia)
pins: 1 GND (power), 2 3V3 (power), 3 EN (in), 4 SENSOR_VP (in), 5 SENSOR_VN (in), 6 IO34 (in), 7 IO35 (in), 8 IO32 (io), 9 IO33 (io), 10 IO25 (io), 11 IO26 (io), 12 IO27 (io), 13 IO14 (io), 14 IO12 (io), 15 GND (power), 16 IO13 (io), 17 SD2 (io), 18 SD3 (io), 19 CMD (io), 20 CLK (io), 21 SDO (io), 22 SD1 (io), 23 IO15 (io), 24 IO2 (io), 25 IO0 (io), 26 IO4 (io), 27 IO16 (io), 28 IO17 (io), 29 IO5 (io), 30 IO18 (io), 31 IO19 (io), 32 NC, 33 IO21 (io), 34 RXDO (io), 35 TX_DO (io), 36 IO22 (io), 37 IO23 (io), 38 GND (power)
text: ESP 32 WROOM

## Mod_WIFI_ESP32D_WROOM_16
designator MD?, comment ESP32
RX TXRX MOD WIFI TRACE ANT SMD; Manufacturer: Espressif Systems; Manufacturer Part Number: ESP32-WROOM-32D-N16; Supplier 1: Digi-Key; Supplier Part Number 1: 1965-ESP32-WROOM-32D-N16CT-ND; Reel Stock: N/A; Last modified by: J.Jaramillo; Last modified date: 20240310; ComponentLink1Description: Digi-Key; ComponentLink1URL: https://www.digikey.com/en/products/detail/espressif-systems/ESP32-WROOM-32D-N16/9381718
footprint MOD_WIFI_ESP32_WROOM (ESP32_WROOM / 20190221 / H-D.Garcia)
pins: 1 GND (power), 2 3V3 (power), 3 EN (in), 4 SENSOR_VP (in), 5 SENSOR_VN (in), 6 IO34 (in), 7 IO35 (in), 8 IO32 (io), 9 IO33 (io), 10 IO25 (io), 11 IO26 (io), 12 IO27 (io), 13 IO14 (io), 14 IO12 (io), 15 GND (power), 16 IO13 (io), 17 SD2 (io), 18 SD3 (io), 19 CMD (io), 20 CLK (io), 21 SDO (io), 22 SD1 (io), 23 IO15 (io), 24 IO2 (io), 25 IO0 (io), 26 IO4 (io), 27 IO16 (io), 28 IO17 (io), 29 IO5 (io), 30 IO18 (io), 31 IO19 (io), 32 NC, 33 IO21 (io), 34 RXDO (io), 35 TX_DO (io), 36 IO22 (io), 37 IO23 (io), 38 GND (power)
text: ESP 32 WROOM

## Mod_WIFI_ESP32E_WROOM
designator MD?, comment ESP32
SMD MODULE, ESP32-D0WDQ6, 32MBIT; Manufacturer: Espressif Systems; Manufacturer Part Number: ESP32-WROOM-32E (4MB); Supplier 1: Digi-Key; Supplier Part Number 1: 1965-ESP32-WROOM-32E(4MB)CT-ND; Reel Stock: N/A; Last modified by: J.Jaramillo; Last modified date: 20240310; ComponentLink1Description: Digi-Key; ComponentLink1URL: https://www.digikey.com/en/products/detail/espressif-systems/ESP32-WROOM-32E-4MB/11613125
footprint MOD_WIFI_ESP32_WROOM (ESP32_WROOM / 20190221 / H-D.Garcia)
pins: 1 GND (power), 2 3V3 (power), 3 EN (in), 4 SENSOR_VP (in), 5 SENSOR_VN (in), 6 IO34 (in), 7 IO35 (in), 8 IO32 (io), 9 IO33 (io), 10 IO25 (io), 11 IO26 (io), 12 IO27 (io), 13 IO14 (io), 14 IO12 (io), 15 GND (power), 16 IO13 (io), 17 SD2 (io), 18 SD3 (io), 19 CMD (io), 20 CLK (io), 21 SDO (io), 22 SD1 (io), 23 IO15 (io), 24 IO2 (io), 25 IO0 (io), 26 IO4 (io), 27 IO16 (io), 28 IO17 (io), 29 IO5 (io), 30 IO18 (io), 31 IO19 (io), 32 NC, 33 IO21 (io), 34 RXDO (io), 35 TX_DO (io), 36 IO22 (io), 37 IO23 (io), 38 GND (power)
text: ESP 32 WROOM

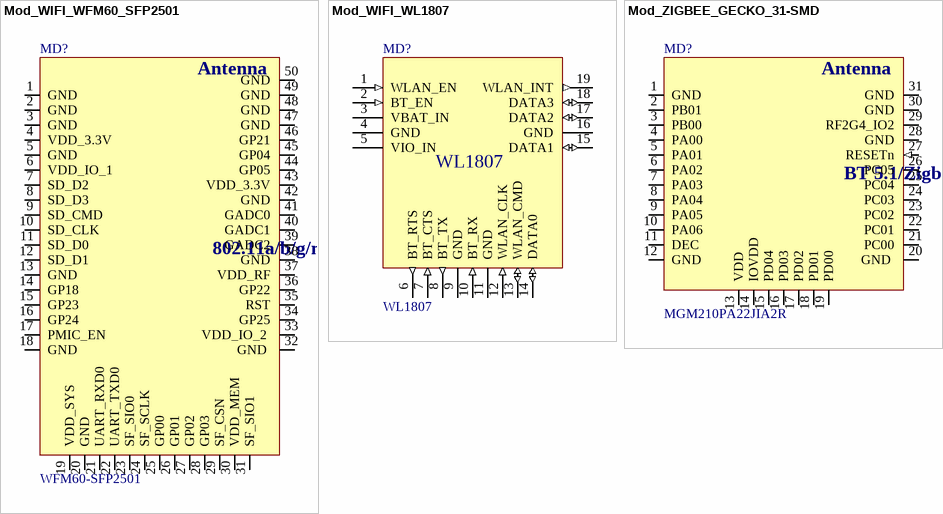
[diagram p3: symbols Mod_WIFI_WFM60_SFP2501 to Mod_ZIGBEE_GECKO_31-SMD]

## Mod_WIFI_WFM60_SFP2501
designator MD?, comment WFM60-SFP2501
WIFI MODULE 32MBITS SPI FLASH; Manufacturer: I&C Technology; Manufacturer Part Number: WFM60-SFP2501; Supplier 1: Poshton; Supplier Part Number 1: WFM60-SFP2501; Reel Stock: N/A; Last modified by: J.Jaramillo; Last modified date: 20240310
footprint Mod_Wifi_WFM60_SFP2501 (WFM60 / 20190221 / H-D.Garcia)
pins: 1 GND  (power), 2 GND  (power), 3 GND  (power), 4 VDD_3.3V  (power), 5 GND  (power), 6 VDD_IO_1  (power), 7 SD_D2 , 8 SD_D3 , 9 SD_CMD , 10 SD_CLK , 11 SD_D0 , 12 SD_D1 , 13 GND  (power), 14 GP18 , 15 GP23 , 16 GP24 , 17 PMIC_EN , 18 GND  (power), 19 VDD_SYS  (power), 20 GND  (power), 21 UART_RXD0 , 22 UART_TXD0 , 23 SF_SIO0 , 24 SF_SCLK , 25 GP00 , 26 GP01 , 27 GP02 , 28 GP03 , 29 SF_CSN , 30 VDD_MEM  (power), 31 SF_SIO1 , 32 GND  (power), 33 VDD_IO_2  (power), 34 GP25, 35 RST, 36 GP22, 37 VDD_RF (power), 38 GND (power), 39 GADC2, 40 GADC1, 41 GADC0, 42 GND (power), 43 VDD_3.3V (power), 44 GP05 (power), 45 GP04 (power), 46 GP21 (power), 47 GND (power), 48 GND (power), 49 GND (power), 50 GND (power)
text: Antenna; 802.11a/b/g/n

## Mod_WIFI_WL1807
designator MD?, comment WL1807  (no BOM)
MODULE WIFI WILINK; Reel Stock: N/A; Last modified by: J.Jaramillo; Last modified date: 20240310
footprint MOD_WIFI_WL1807 (WL1807/ 20191205 / N-A. Potosi)
pins: 1 WLAN_EN (in), 2 BT_EN (in), 3 VBAT_IN, 4 GND, 5 VIO_IN, 6 BT_RTS (out), 7 BT_CTS (in), 8 BT_TX (out), 9 GND, 10 BT_RX (in), 11 GND, 12 WLAN_CLK (in), 13 WLAN_CMD (io), 14 DATA0 (io), 15 DATA1 (io), 16 GND, 17 DATA2 (io), 18 DATA3 (io), 19 WLAN_INT (out)

## Mod_ZIGBEE_GECKO_31-SMD
designator MD?, comment MGM210PA22JIA2R
MODULE MIGHTY GECKO 10BD; Manufacturer: Silicon Labs; Manufacturer Part Number: MGM210PA32JIA2; Supplier 1: Digi-Key; Supplier Part Number 1: 336-MGM210PA32JIA2-ND; Reel Stock: N/A; Last modified by: J.Jaramillo; Last modified date: 20240310; ComponentLink1Description: Digi-Key; ComponentLink1URL: https://www.digikey.com/en/products/detail/silicon-labs/MGM210PA22JIA2R/11696327?s=N4IgTCBcDaIMxwGwFoCyBxVYCMAGACgIJhgBSAksQEoAqVyAcgCIgC6AvkA
footprint Mod_Zigbee_Gecko (Mighty Gecko / 20220516/ N-A.Potosi)
pins: 1 GND  (power), 2 PB01 (io), 3 PB00 (io), 4 PA00 (io), 5 PA01 (io), 6 PA02 (io), 7 PA03 (io), 8 PA04 (io), 9 PA05 (io), 10 PA06 (io), 11 DEC (power), 12 GND (power), 13 VDD (power), 14 IOVDD, 15 PD04 (io), 16 PD03 (io), 17 PD02 (io), 18 PD01 (io), 19 PD00 (io), 20 GND  (power), 21 PC00 (io), 22 PC01 (io), 23 PC02 (io), 24 PC03 (io), 25 PC04 (io), 26 PC05 (io), 27 RESETn (in), 28 GND, 29 RF2G4_IO2, 30 GND (power), 31 GND
text: Antenna; BT 5.1/Zigbee